# Altium schematic symbol library 74HC4053.SchLib: 1 symbol
Pins are listed as number, name and electrical type; pins without a type are passive.

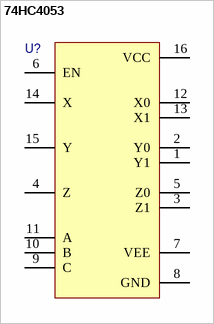
[diagram p0: symbol 74HC4053]

## 74HC4053
designator U?
pins: 1 Y1, 2 Y0, 3 Z1, 4 Z, 5 Z0, 6 EN, 7 VEE, 8 GND, 9 C, 10 B, 11 A, 12 X0, 13 X1, 14 X, 15 Y, 16 VCC